# Altium footprint library Button_Switch_SMD.PcbLib: 148 footprints (part 4 of 10)
Each footprint in its own frame and in the unit in brackets; x right, y up, seen from the top. Pads: shape width x height; smd on the part's side, far side on the other; paste and mask are expansions set on the pad; w line width, h text height; cw(c..) or ccw(c..) is an arc to the next point about the centre after c.
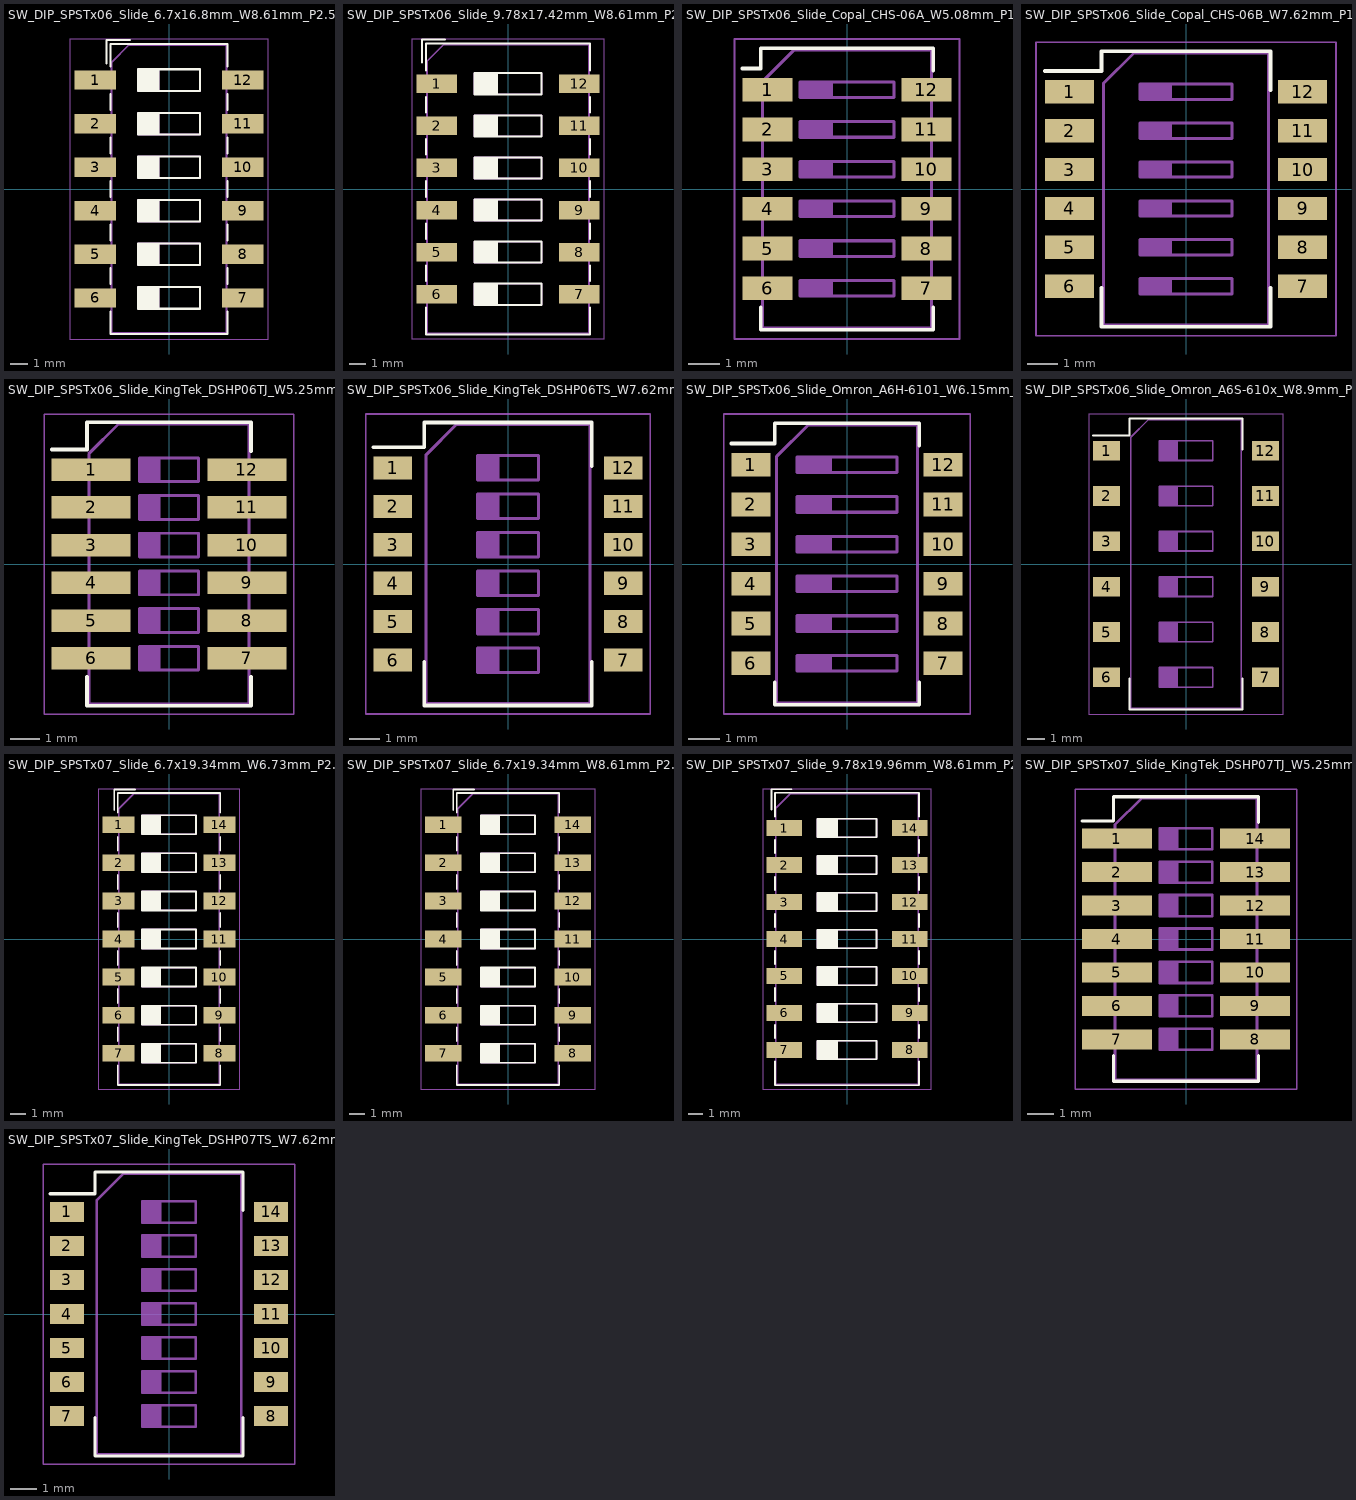
[diagram p3: the footprints below, top view; thin cyan lines are the x and y axes]

## SW_DIP_SPSTx06_Slide_6.7x16.8mm_W8.61mm_P2.54mm_LowProfile [mm]
pads (12):
  rect 2.44x1.12 smd: 1(-4.305,6.35) 2(-4.305,3.81) 3(-4.305,1.27) 4(-4.305,-1.27) 5(-4.305,-3.81) 6(-4.305,-6.35) 7(4.305,-6.35) 8(4.305,-3.81) 9(4.305,-1.27) 10(4.305,1.27) 11(4.305,3.81) 12(4.305,6.35)
F.SilkS:
  lines w0.12: -3.65,7.317 -3.65,8.7 -2.267,8.7 ; -3.41,-7.15 -3.41,-8.461 3.41,-8.461 3.41,-7.15 ; -3.41,-5.55 -3.41,-4.61 ; -3.41,-3.01 -3.41,-2.07 ; -3.41,-0.47 -3.41,0.47 ; -3.41,2.07 -3.41,3.01 ; -3.41,4.61 -3.41,5.55 ; -3.41,7.15 -3.41,8.46 3.41,8.46 3.41,7.15 ; -1.81,-6.915 -0.603,-6.915 ; -1.81,-6.795 -0.603,-6.795 ; -1.81,-6.675 -0.603,-6.675 ; -1.81,-6.555 -0.603,-6.555 ; -1.81,-6.435 -0.603,-6.435 ; -1.81,-6.315 -0.603,-6.315 ; -1.81,-6.195 -0.603,-6.195 ; -1.81,-6.075 -0.603,-6.075 ; -1.81,-5.955 -0.603,-5.955 ; -1.81,-5.835 -0.603,-5.835 ; -1.81,-4.375 -0.603,-4.375 ; -1.81,-4.255 -0.603,-4.255 ; -1.81,-4.135 -0.603,-4.135 ; -1.81,-4.015 -0.603,-4.015 ; -1.81,-3.895 -0.603,-3.895 ; -1.81,-3.775 -0.603,-3.775 ; -1.81,-3.655 -0.603,-3.655 ; -1.81,-3.535 -0.603,-3.535 ; -1.81,-3.415 -0.603,-3.415 ; -1.81,-3.295 -0.603,-3.295 ; -1.81,-1.835 -0.603,-1.835 ; -1.81,-1.715 -0.603,-1.715 ; -1.81,-1.595 -0.603,-1.595 ; -1.81,-1.475 -0.603,-1.475 ; -1.81,-1.355 -0.603,-1.355 ; -1.81,-1.235 -0.603,-1.235 ; -1.81,-1.115 -0.603,-1.115 ; -1.81,-0.995 -0.603,-0.995 ; -1.81,-0.875 -0.603,-0.875 ; -1.81,-0.755 -0.603,-0.755 ; -1.81,0.705 -0.603,0.705 ; -1.81,0.825 -0.603,0.825 ; -1.81,0.945 -0.603,0.945 ; -1.81,1.065 -0.603,1.065 ; -1.81,1.185 -0.603,1.185 ; -1.81,1.305 -0.603,1.305 ; -1.81,1.425 -0.603,1.425 ; -1.81,1.545 -0.603,1.545 ; -1.81,1.665 -0.603,1.665 ; -1.81,1.785 -0.603,1.785 ; -1.81,3.245 -0.603,3.245 ; -1.81,3.365 -0.603,3.365 ; -1.81,3.485 -0.603,3.485 ; -1.81,3.605 -0.603,3.605 ; -1.81,3.725 -0.603,3.725 ; -1.81,3.845 -0.603,3.845 ; -1.81,3.965 -0.603,3.965 ; -1.81,4.085 -0.603,4.085 ; -1.81,4.205 -0.603,4.205 ; -1.81,4.325 -0.603,4.325 ; -1.81,5.785 -0.603,5.785 ; -1.81,5.905 -0.603,5.905 ; -1.81,6.025 -0.603,6.025 ; -1.81,6.145 -0.603,6.145 ; -1.81,6.265 -0.603,6.265 ; -1.81,6.385 -0.603,6.385 ; -1.81,6.505 -0.603,6.505 ; -1.81,6.625 -0.603,6.625 ; -1.81,6.745 -0.603,6.745 ; -1.81,6.865 -0.603,6.865 ; -0.603,-6.985 -0.603,-5.715 ; -0.603,-4.445 -0.603,-3.175 ; -0.603,-1.905 -0.603,-0.635 ; -0.603,0.635 -0.603,1.905 ; -0.603,3.175 -0.603,4.445 ; -0.603,5.715 -0.603,6.985 ; 3.41,-5.55 3.41,-4.61 ; 3.41,-3.01 3.41,-2.07 ; 3.41,-0.47 3.41,0.47 ; 3.41,2.07 3.41,3.01 ; 3.41,4.61 3.41,5.55 ; -1.81,-6.985 1.81,-6.985 1.81,-5.715 -1.81,-5.715 -1.81,-6.985 ; -1.81,-4.445 1.81,-4.445 1.81,-3.175 -1.81,-3.175 -1.81,-4.445 ; -1.81,-1.905 -1.81,-0.635 1.81,-0.635 1.81,-1.905 -1.81,-1.905 ; -1.81,0.635 1.81,0.635 1.81,1.905 -1.81,1.905 -1.81,0.635 ; -1.81,3.175 -1.81,4.445 1.81,4.445 1.81,3.175 -1.81,3.175 ; -1.81,5.715 1.81,5.715 1.81,6.985 -1.81,6.985 -1.81,5.715
F.CrtYd:
  lines w0.05: -5.8,-8.75 -5.8,8.75 5.8,8.75 5.8,-8.75 -5.8,-8.75
F.Fab:
  lines w0.1: -1.81,-6.915 -0.603,-6.915 ; -1.81,-6.815 -0.603,-6.815 ; -1.81,-6.715 -0.603,-6.715 ; -1.81,-6.615 -0.603,-6.615 ; -1.81,-6.515 -0.603,-6.515 ; -1.81,-6.415 -0.603,-6.415 ; -1.81,-6.315 -0.603,-6.315 ; -1.81,-6.215 -0.603,-6.215 ; -1.81,-6.115 -0.603,-6.115 ; -1.81,-6.015 -0.603,-6.015 ; -1.81,-5.915 -0.603,-5.915 ; -1.81,-5.815 -0.603,-5.815 ; -1.81,-4.375 -0.603,-4.375 ; -1.81,-4.275 -0.603,-4.275 ; -1.81,-4.175 -0.603,-4.175 ; -1.81,-4.075 -0.603,-4.075 ; -1.81,-3.975 -0.603,-3.975 ; -1.81,-3.875 -0.603,-3.875 ; -1.81,-3.775 -0.603,-3.775 ; -1.81,-3.675 -0.603,-3.675 ; -1.81,-3.575 -0.603,-3.575 ; -1.81,-3.475 -0.603,-3.475 ; -1.81,-3.375 -0.603,-3.375 ; -1.81,-3.275 -0.603,-3.275 ; -1.81,-1.835 -0.603,-1.835 ; -1.81,-1.735 -0.603,-1.735 ; -1.81,-1.635 -0.603,-1.635 ; -1.81,-1.535 -0.603,-1.535 ; -1.81,-1.435 -0.603,-1.435 ; -1.81,-1.335 -0.603,-1.335 ; -1.81,-1.235 -0.603,-1.235 ; -1.81,-1.135 -0.603,-1.135 ; -1.81,-1.035 -0.603,-1.035 ; -1.81,-0.935 -0.603,-0.935 ; -1.81,-0.835 -0.603,-0.835 ; -1.81,-0.735 -0.603,-0.735 ; -1.81,0.705 -0.603,0.705 ; -1.81,0.805 -0.603,0.805 ; -1.81,0.905 -0.603,0.905 ; -1.81,1.005 -0.603,1.005 ; -1.81,1.105 -0.603,1.105 ; -1.81,1.205 -0.603,1.205 ; -1.81,1.305 -0.603,1.305 ; -1.81,1.405 -0.603,1.405 ; -1.81,1.505 -0.603,1.505 ; -1.81,1.605 -0.603,1.605 ; -1.81,1.705 -0.603,1.705 ; -1.81,1.805 -0.603,1.805 ; -1.81,3.245 -0.603,3.245 ; -1.81,3.345 -0.603,3.345 ; -1.81,3.445 -0.603,3.445 ; -1.81,3.545 -0.603,3.545 ; -1.81,3.645 -0.603,3.645 ; -1.81,3.745 -0.603,3.745 ; -1.81,3.845 -0.603,3.845 ; -1.81,3.945 -0.603,3.945 ; -1.81,4.045 -0.603,4.045 ; -1.81,4.145 -0.603,4.145 ; -1.81,4.245 -0.603,4.245 ; -1.81,4.345 -0.603,4.345 ; -1.81,5.785 -0.603,5.785 ; -1.81,5.885 -0.603,5.885 ; -1.81,5.985 -0.603,5.985 ; -1.81,6.085 -0.603,6.085 ; -1.81,6.185 -0.603,6.185 ; -1.81,6.285 -0.603,6.285 ; -1.81,6.385 -0.603,6.385 ; -1.81,6.485 -0.603,6.485 ; -1.81,6.585 -0.603,6.585 ; -1.81,6.685 -0.603,6.685 ; -1.81,6.785 -0.603,6.785 ; -1.81,6.885 -0.603,6.885 ; -0.603,-6.985 -0.603,-5.715 ; -0.603,-4.445 -0.603,-3.175 ; -0.603,-1.905 -0.603,-0.635 ; -0.603,0.635 -0.603,1.905 ; -0.603,3.175 -0.603,4.445 ; -0.603,5.715 -0.603,6.985 ; -3.35,-8.4 3.35,-8.4 3.35,8.4 -2.35,8.4 -3.35,7.4 -3.35,-8.4 ; -1.81,-6.985 -1.81,-5.715 1.81,-5.715 1.81,-6.985 -1.81,-6.985 ; -1.81,-4.445 -1.81,-3.175 1.81,-3.175 1.81,-4.445 -1.81,-4.445 ; -1.81,-1.905 1.81,-1.905 1.81,-0.635 -1.81,-0.635 -1.81,-1.905 ; -1.81,0.635 1.81,0.635 1.81,1.905 -1.81,1.905 -1.81,0.635 ; -1.81,3.175 -1.81,4.445 1.81,4.445 1.81,3.175 -1.81,3.175 ; -1.81,5.715 -1.81,6.985 1.81,6.985 1.81,5.715 -1.81,5.715
  text "'.Designator'" at 3.252,-3.237 h0.8
  text "on" at -0.237,7.306 h0.8

## SW_DIP_SPSTx06_Slide_9.78x17.42mm_W8.61mm_P2.54mm [mm]
pads (12):
  rect 2.44x1.12 smd: 1(-4.305,6.35) 2(-4.305,3.81) 3(-4.305,1.27) 4(-4.305,-1.27) 5(-4.305,-3.81) 6(-4.305,-6.35) 7(4.305,-6.35) 8(4.305,-3.81) 9(4.305,-1.27) 10(4.305,1.27) 11(4.305,3.81) 12(4.305,6.35)
F.SilkS:
  lines w0.12: -5.19,7.627 -5.19,9.01 -3.806,9.01 ; -4.95,-7.15 -4.95,-8.77 4.95,-8.77 4.95,-7.15 ; -4.95,-5.55 -4.95,-4.61 ; -4.95,-3.01 -4.95,-2.07 ; -4.95,-0.47 -4.95,0.47 ; -4.95,2.07 -4.95,3.01 ; -4.95,4.61 -4.95,5.55 ; -4.95,7.15 -4.95,8.77 4.95,8.77 4.95,7.15 ; -2.03,-6.915 -0.677,-6.915 ; -2.03,-6.795 -0.677,-6.795 ; -2.03,-6.675 -0.677,-6.675 ; -2.03,-6.555 -0.677,-6.555 ; -2.03,-6.435 -0.677,-6.435 ; -2.03,-6.315 -0.677,-6.315 ; -2.03,-6.195 -0.677,-6.195 ; -2.03,-6.075 -0.677,-6.075 ; -2.03,-5.955 -0.677,-5.955 ; -2.03,-5.835 -0.677,-5.835 ; -2.03,-4.375 -0.677,-4.375 ; -2.03,-4.255 -0.677,-4.255 ; -2.03,-4.135 -0.677,-4.135 ; -2.03,-4.015 -0.677,-4.015 ; -2.03,-3.895 -0.677,-3.895 ; -2.03,-3.775 -0.677,-3.775 ; -2.03,-3.655 -0.677,-3.655 ; -2.03,-3.535 -0.677,-3.535 ; -2.03,-3.415 -0.677,-3.415 ; -2.03,-3.295 -0.677,-3.295 ; -2.03,-1.835 -0.677,-1.835 ; -2.03,-1.715 -0.677,-1.715 ; -2.03,-1.595 -0.677,-1.595 ; -2.03,-1.475 -0.677,-1.475 ; -2.03,-1.355 -0.677,-1.355 ; -2.03,-1.235 -0.677,-1.235 ; -2.03,-1.115 -0.677,-1.115 ; -2.03,-0.995 -0.677,-0.995 ; -2.03,-0.875 -0.677,-0.875 ; -2.03,-0.755 -0.677,-0.755 ; -2.03,0.705 -0.677,0.705 ; -2.03,0.825 -0.677,0.825 ; -2.03,0.945 -0.677,0.945 ; -2.03,1.065 -0.677,1.065 ; -2.03,1.185 -0.677,1.185 ; -2.03,1.305 -0.677,1.305 ; -2.03,1.425 -0.677,1.425 ; -2.03,1.545 -0.677,1.545 ; -2.03,1.665 -0.677,1.665 ; -2.03,1.785 -0.677,1.785 ; -2.03,3.245 -0.677,3.245 ; -2.03,3.365 -0.677,3.365 ; -2.03,3.485 -0.677,3.485 ; -2.03,3.605 -0.677,3.605 ; -2.03,3.725 -0.677,3.725 ; -2.03,3.845 -0.677,3.845 ; -2.03,3.965 -0.677,3.965 ; -2.03,4.085 -0.677,4.085 ; -2.03,4.205 -0.677,4.205 ; -2.03,4.325 -0.677,4.325 ; -2.03,5.785 -0.677,5.785 ; -2.03,5.905 -0.677,5.905 ; -2.03,6.025 -0.677,6.025 ; -2.03,6.145 -0.677,6.145 ; -2.03,6.265 -0.677,6.265 ; -2.03,6.385 -0.677,6.385 ; -2.03,6.505 -0.677,6.505 ; -2.03,6.625 -0.677,6.625 ; -2.03,6.745 -0.677,6.745 ; -2.03,6.865 -0.677,6.865 ; -0.677,-6.985 -0.677,-5.715 ; -0.677,-4.445 -0.677,-3.175 ; -0.677,-1.905 -0.677,-0.635 ; -0.677,0.635 -0.677,1.905 ; -0.677,3.175 -0.677,4.445 ; -0.677,5.715 -0.677,6.985 ; 4.95,-5.55 4.95,-4.61 ; 4.95,-3.01 4.95,-2.07 ; 4.95,-0.47 4.95,0.47 ; 4.95,2.07 4.95,3.01 ; 4.95,4.61 4.95,5.55 ; -2.03,-6.985 2.03,-6.985 2.03,-5.715 -2.03,-5.715 -2.03,-6.985 ; -2.03,-4.445 -2.03,-3.175 2.03,-3.175 2.03,-4.445 -2.03,-4.445 ; -2.03,-1.905 2.03,-1.905 2.03,-0.635 -2.03,-0.635 -2.03,-1.905 ; -2.03,0.635 2.03,0.635 2.03,1.905 -2.03,1.905 -2.03,0.635 ; -2.03,3.175 -2.03,4.445 2.03,4.445 2.03,3.175 -2.03,3.175 ; -2.03,5.715 -2.03,6.985 2.03,6.985 2.03,5.715 -2.03,5.715
F.CrtYd:
  lines w0.05: -5.8,-9.05 -5.8,9.05 5.8,9.05 5.8,-9.05 -5.8,-9.05
F.Fab:
  lines w0.1: -2.03,-6.915 -0.677,-6.915 ; -2.03,-6.815 -0.677,-6.815 ; -2.03,-6.715 -0.677,-6.715 ; -2.03,-6.615 -0.677,-6.615 ; -2.03,-6.515 -0.677,-6.515 ; -2.03,-6.415 -0.677,-6.415 ; -2.03,-6.315 -0.677,-6.315 ; -2.03,-6.215 -0.677,-6.215 ; -2.03,-6.115 -0.677,-6.115 ; -2.03,-6.015 -0.677,-6.015 ; -2.03,-5.915 -0.677,-5.915 ; -2.03,-5.815 -0.677,-5.815 ; -2.03,-4.375 -0.677,-4.375 ; -2.03,-4.275 -0.677,-4.275 ; -2.03,-4.175 -0.677,-4.175 ; -2.03,-4.075 -0.677,-4.075 ; -2.03,-3.975 -0.677,-3.975 ; -2.03,-3.875 -0.677,-3.875 ; -2.03,-3.775 -0.677,-3.775 ; -2.03,-3.675 -0.677,-3.675 ; -2.03,-3.575 -0.677,-3.575 ; -2.03,-3.475 -0.677,-3.475 ; -2.03,-3.375 -0.677,-3.375 ; -2.03,-3.275 -0.677,-3.275 ; -2.03,-1.835 -0.677,-1.835 ; -2.03,-1.735 -0.677,-1.735 ; -2.03,-1.635 -0.677,-1.635 ; -2.03,-1.535 -0.677,-1.535 ; -2.03,-1.435 -0.677,-1.435 ; -2.03,-1.335 -0.677,-1.335 ; -2.03,-1.235 -0.677,-1.235 ; -2.03,-1.135 -0.677,-1.135 ; -2.03,-1.035 -0.677,-1.035 ; -2.03,-0.935 -0.677,-0.935 ; -2.03,-0.835 -0.677,-0.835 ; -2.03,-0.735 -0.677,-0.735 ; -2.03,0.705 -0.677,0.705 ; -2.03,0.805 -0.677,0.805 ; -2.03,0.905 -0.677,0.905 ; -2.03,1.005 -0.677,1.005 ; -2.03,1.105 -0.677,1.105 ; -2.03,1.205 -0.677,1.205 ; -2.03,1.305 -0.677,1.305 ; -2.03,1.405 -0.677,1.405 ; -2.03,1.505 -0.677,1.505 ; -2.03,1.605 -0.677,1.605 ; -2.03,1.705 -0.677,1.705 ; -2.03,1.805 -0.677,1.805 ; -2.03,3.245 -0.677,3.245 ; -2.03,3.345 -0.677,3.345 ; -2.03,3.445 -0.677,3.445 ; -2.03,3.545 -0.677,3.545 ; -2.03,3.645 -0.677,3.645 ; -2.03,3.745 -0.677,3.745 ; -2.03,3.845 -0.677,3.845 ; -2.03,3.945 -0.677,3.945 ; -2.03,4.045 -0.677,4.045 ; -2.03,4.145 -0.677,4.145 ; -2.03,4.245 -0.677,4.245 ; -2.03,4.345 -0.677,4.345 ; -2.03,5.785 -0.677,5.785 ; -2.03,5.885 -0.677,5.885 ; -2.03,5.985 -0.677,5.985 ; -2.03,6.085 -0.677,6.085 ; -2.03,6.185 -0.677,6.185 ; -2.03,6.285 -0.677,6.285 ; -2.03,6.385 -0.677,6.385 ; -2.03,6.485 -0.677,6.485 ; -2.03,6.585 -0.677,6.585 ; -2.03,6.685 -0.677,6.685 ; -2.03,6.785 -0.677,6.785 ; -2.03,6.885 -0.677,6.885 ; -0.677,-6.985 -0.677,-5.715 ; -0.677,-4.445 -0.677,-3.175 ; -0.677,-1.905 -0.677,-0.635 ; -0.677,0.635 -0.677,1.905 ; -0.677,3.175 -0.677,4.445 ; -0.677,5.715 -0.677,6.985 ; -4.89,-8.71 -4.89,7.71 -3.89,8.71 4.89,8.71 4.89,-8.71 -4.89,-8.71 ; -2.03,-6.985 2.03,-6.985 2.03,-5.715 -2.03,-5.715 -2.03,-6.985 ; -2.03,-4.445 2.03,-4.445 2.03,-3.175 -2.03,-3.175 -2.03,-4.445 ; -2.03,-1.905 -2.03,-0.635 2.03,-0.635 2.03,-1.905 -2.03,-1.905 ; -2.03,0.635 -2.03,1.905 2.03,1.905 2.03,0.635 -2.03,0.635 ; -2.03,3.175 -2.03,4.445 2.03,4.445 2.03,3.175 -2.03,3.175 ; -2.03,5.715 2.03,5.715 2.03,6.985 -2.03,6.985 -2.03,5.715
  text "'.Designator'" at 4.132,-3.237 h0.8
  text "on" at 0.643,7.461 h0.8

## SW_DIP_SPSTx06_Slide_Copal_CHS-06A_W5.08mm_P1.27mm_JPin [mm]
pads (12):
  rect 1.6x0.76 smd: 1(-2.54,3.175) 2(-2.54,1.905) 3(-2.54,0.635) 4(-2.54,-0.635) 5(-2.54,-1.905) 6(-2.54,-3.175) 7(2.54,-3.175) 8(2.54,-1.905) 9(2.54,-0.635) 10(2.54,0.635) 11(2.54,1.905) 12(2.54,3.175)
F.SilkS:
  lines w0.12: -3.34,3.855 -2.761,3.855 -2.761,4.505 2.76,4.505 2.76,3.795 ; -2.761,-3.795 -2.761,-4.505 2.76,-4.505 2.76,-3.795
F.CrtYd:
  lines w0.05: -3.6,-4.8 -3.6,4.8 3.6,4.8 3.6,-4.8 -3.6,-4.8
F.Fab:
  lines w0.1: -1.5,-3.325 -0.5,-3.325 ; -1.5,-3.225 -0.5,-3.225 ; -1.5,-3.125 -0.5,-3.125 ; -1.5,-3.025 -0.5,-3.025 ; -1.5,-2.055 -0.5,-2.055 ; -1.5,-1.955 -0.5,-1.955 ; -1.5,-1.855 -0.5,-1.855 ; -1.5,-1.755 -0.5,-1.755 ; -1.5,-0.785 -0.5,-0.785 ; -1.5,-0.685 -0.5,-0.685 ; -1.5,-0.585 -0.5,-0.585 ; -1.5,-0.485 -0.5,-0.485 ; -1.5,0.485 -0.5,0.485 ; -1.5,0.585 -0.5,0.585 ; -1.5,0.685 -0.5,0.685 ; -1.5,0.785 -0.5,0.785 ; -1.5,1.755 -0.5,1.755 ; -1.5,1.855 -0.5,1.855 ; -1.5,1.955 -0.5,1.955 ; -1.5,2.055 -0.5,2.055 ; -1.5,3.025 -0.5,3.025 ; -1.5,3.125 -0.5,3.125 ; -1.5,3.225 -0.5,3.225 ; -1.5,3.325 -0.5,3.325 ; -0.5,-2.925 -0.5,-3.425 -1.5,-3.425 ; -0.5,-1.655 -0.5,-2.155 -1.5,-2.155 ; -0.5,-0.885 -0.5,-0.385 ; -0.5,0.385 -0.5,0.885 ; -0.5,1.655 -0.5,2.155 ; -0.5,2.925 -0.5,3.425 ; -1.5,-3.425 -1.5,-2.925 1.5,-2.925 1.5,-3.425 -1.5,-3.425 ; -1.5,-2.155 1.5,-2.155 1.5,-1.655 -1.5,-1.655 -1.5,-2.155 ; -2.7,-4.445 2.7,-4.445 2.7,4.445 -1.7,4.445 -2.7,3.445 -2.7,-4.445 ; -1.5,-0.885 1.5,-0.885 1.5,-0.385 -1.5,-0.385 -1.5,-0.885 ; -1.5,0.385 -1.5,0.885 1.5,0.885 1.5,0.385 -1.5,0.385 ; -1.5,1.655 -1.5,2.155 1.5,2.155 1.5,1.655 -1.5,1.655 ; -1.5,2.925 -1.5,3.425 1.5,3.425 1.5,2.925 -1.5,2.925
  text "'.Designator'" at 2.772,-3.237 h0.8
  text "on" at 0.165,3.548 h0.8

## SW_DIP_SPSTx06_Slide_Copal_CHS-06B_W7.62mm_P1.27mm [mm]
pads (12):
  rect 1.6x0.76 smd: 1(-3.81,3.175) 2(-3.81,1.905) 3(-3.81,0.635) 4(-3.81,-0.635) 5(-3.81,-1.905) 6(-3.81,-3.175) 7(3.81,-3.175) 8(3.81,-1.905) 9(3.81,-0.635) 10(3.81,0.635) 11(3.81,1.905) 12(3.81,3.175)
F.SilkS:
  lines w0.12: -4.61,3.855 -2.76,3.855 -2.76,4.505 2.76,4.505 2.76,3.236 ; -2.76,-3.235 -2.76,-4.505 2.76,-4.505 2.76,-3.235
F.CrtYd:
  lines w0.05: -4.9,-4.8 4.9,-4.8 4.9,4.8 -4.9,4.8 -4.9,-4.8
F.Fab:
  lines w0.1: -1.5,-3.325 -0.5,-3.325 ; -1.5,-3.225 -0.5,-3.225 ; -1.5,-3.125 -0.5,-3.125 ; -1.5,-3.025 -0.5,-3.025 ; -1.5,-2.055 -0.5,-2.055 ; -1.5,-1.955 -0.5,-1.955 ; -1.5,-1.855 -0.5,-1.855 ; -1.5,-1.755 -0.5,-1.755 ; -1.5,-0.785 -0.5,-0.785 ; -1.5,-0.685 -0.5,-0.685 ; -1.5,-0.585 -0.5,-0.585 ; -1.5,-0.485 -0.5,-0.485 ; -1.5,0.485 -0.5,0.485 ; -1.5,0.585 -0.5,0.585 ; -1.5,0.685 -0.5,0.685 ; -1.5,0.785 -0.5,0.785 ; -1.5,1.755 -0.5,1.755 ; -1.5,1.855 -0.5,1.855 ; -1.5,1.955 -0.5,1.955 ; -1.5,2.055 -0.5,2.055 ; -1.5,3.025 -0.5,3.025 ; -1.5,3.125 -0.5,3.125 ; -1.5,3.225 -0.5,3.225 ; -1.5,3.325 -0.5,3.325 ; -0.5,-2.925 -0.5,-3.425 -1.5,-3.425 ; -0.5,-1.655 -0.5,-2.155 -1.5,-2.155 ; -0.5,-0.885 -0.5,-0.385 ; -0.5,0.385 -0.5,0.885 ; -0.5,1.655 -0.5,2.155 ; -0.5,2.925 -0.5,3.425 ; -1.5,-3.425 1.5,-3.425 1.5,-2.925 -1.5,-2.925 -1.5,-3.425 ; -1.5,-2.155 1.5,-2.155 1.5,-1.655 -1.5,-1.655 -1.5,-2.155 ; -2.7,-4.445 2.7,-4.445 2.7,4.445 -1.7,4.445 -2.7,3.445 -2.7,-4.445 ; -1.5,-0.885 -1.5,-0.385 1.5,-0.385 1.5,-0.885 -1.5,-0.885 ; -1.5,0.385 1.5,0.385 1.5,0.885 -1.5,0.885 -1.5,0.385 ; -1.5,1.655 -1.5,2.155 1.5,2.155 1.5,1.655 -1.5,1.655 ; -1.5,2.925 1.5,2.925 1.5,3.425 -1.5,3.425 -1.5,2.925
  text "on" at -0.47,3.548 h0.8
  text "'.Designator'" at 2.772,-3.237 h0.8

## SW_DIP_SPSTx06_Slide_KingTek_DSHP06TJ_W5.25mm_P1.27mm_JPin [mm]
pads (12):
  rect 2.65x0.76 smd: 1(-2.625,3.175) 2(-2.625,1.905) 3(-2.625,0.635) 4(-2.625,-0.635) 5(-2.625,-1.905) 6(-2.625,-3.175) 7(2.625,-3.175) 8(2.625,-1.905) 9(2.625,-0.635) 10(2.625,0.635) 11(2.625,1.905) 12(2.625,3.175)
F.SilkS:
  lines w0.12: -3.951,3.855 -2.761,3.855 -2.761,4.77 2.76,4.77 2.76,3.795 ; -2.761,-3.795 -2.761,-4.77 2.76,-4.77 2.76,-3.795
F.CrtYd:
  lines w0.05: -4.2,-5.05 4.2,-5.05 4.2,5.05 -4.2,5.05 -4.2,-5.05
F.Fab:
  lines w0.1: -1,-3.475 -0.333,-3.475 ; -1,-3.375 -0.333,-3.375 ; -1,-3.275 -0.333,-3.275 ; -1,-3.175 -0.333,-3.175 ; -1,-3.075 -0.333,-3.075 ; -1,-2.975 -0.333,-2.975 ; -1,-2.875 -0.333,-2.875 ; -1,-2.205 -0.333,-2.205 ; -1,-2.105 -0.333,-2.105 ; -1,-2.005 -0.333,-2.005 ; -1,-1.905 -0.333,-1.905 ; -1,-1.805 -0.333,-1.805 ; -1,-1.705 -0.333,-1.705 ; -1,-1.605 -0.333,-1.605 ; -1,-0.935 -0.333,-0.935 ; -1,-0.835 -0.333,-0.835 ; -1,-0.735 -0.333,-0.735 ; -1,-0.635 -0.333,-0.635 ; -1,-0.535 -0.333,-0.535 ; -1,-0.435 -0.333,-0.435 ; -1,-0.335 -0.333,-0.335 ; -1,0.335 -0.333,0.335 ; -1,0.435 -0.333,0.435 ; -1,0.535 -0.333,0.535 ; -1,0.635 -0.333,0.635 ; -1,0.735 -0.333,0.735 ; -1,0.835 -0.333,0.835 ; -1,0.935 -0.333,0.935 ; -1,1.605 -0.333,1.605 ; -1,1.705 -0.333,1.705 ; -1,1.805 -0.333,1.805 ; -1,1.905 -0.333,1.905 ; -1,2.005 -0.333,2.005 ; -1,2.105 -0.333,2.105 ; -1,2.205 -0.333,2.205 ; -1,2.875 -0.333,2.875 ; -1,2.975 -0.333,2.975 ; -1,3.075 -0.333,3.075 ; -1,3.175 -0.333,3.175 ; -1,3.275 -0.333,3.275 ; -1,3.375 -0.333,3.375 ; -1,3.475 -0.333,3.475 ; -0.333,-2.775 -0.333,-3.575 -1,-3.575 ; -0.333,-1.505 -0.333,-2.305 -1,-2.305 ; -0.333,-1.035 -0.333,-0.235 ; -0.333,0.235 -0.333,1.035 ; -0.333,1.505 -0.333,2.305 ; -0.333,2.775 -0.333,3.575 ; -1,-3.575 1,-3.575 1,-2.775 -1,-2.775 -1,-3.575 ; -1,-2.305 1,-2.305 1,-1.505 -1,-1.505 -1,-2.305 ; -2.7,-4.71 2.7,-4.71 2.7,4.71 -1.7,4.71 -2.7,3.71 -2.7,-4.71 ; -1,-1.035 1,-1.035 1,-0.235 -1,-0.235 -1,-1.035 ; -1,0.235 1,0.235 1,1.035 -1,1.035 -1,0.235 ; -1,1.505 -1,2.305 1,2.305 1,1.505 -1,1.505 ; -1,2.775 1,2.775 1,3.575 -1,3.575 -1,2.775
  text "on" at -0.127,3.756 h0.8
  text "'.Designator'" at 2.522,-3.237 h0.8

## SW_DIP_SPSTx06_Slide_KingTek_DSHP06TS_W7.62mm_P1.27mm [mm]
pads (12):
  rect 1.27x0.76 smd: 1(-3.81,3.175) 2(-3.81,1.905) 3(-3.81,0.635) 4(-3.81,-0.635) 5(-3.81,-1.905) 6(-3.81,-3.175) 7(3.81,-3.175) 8(3.81,-1.905) 9(3.81,-0.635) 10(3.81,0.635) 11(3.81,1.905) 12(3.81,3.175)
F.SilkS:
  lines w0.12: -4.446,3.855 -2.76,3.855 -2.76,4.671 2.76,4.671 2.76,3.236 ; -2.76,-3.235 -2.76,-4.67 2.76,-4.67 2.76,-3.235
F.CrtYd:
  lines w0.05: -4.7,-4.95 -4.7,4.95 4.7,4.95 4.7,-4.95 -4.7,-4.95
F.Fab:
  lines w0.1: -1,-3.475 -0.333,-3.475 ; -1,-3.375 -0.333,-3.375 ; -1,-3.275 -0.333,-3.275 ; -1,-3.175 -0.333,-3.175 ; -1,-3.075 -0.333,-3.075 ; -1,-2.975 -0.333,-2.975 ; -1,-2.875 -0.333,-2.875 ; -1,-2.205 -0.333,-2.205 ; -1,-2.105 -0.333,-2.105 ; -1,-2.005 -0.333,-2.005 ; -1,-1.905 -0.333,-1.905 ; -1,-1.805 -0.333,-1.805 ; -1,-1.705 -0.333,-1.705 ; -1,-1.605 -0.333,-1.605 ; -1,-0.935 -0.333,-0.935 ; -1,-0.835 -0.333,-0.835 ; -1,-0.735 -0.333,-0.735 ; -1,-0.635 -0.333,-0.635 ; -1,-0.535 -0.333,-0.535 ; -1,-0.435 -0.333,-0.435 ; -1,-0.335 -0.333,-0.335 ; -1,0.335 -0.333,0.335 ; -1,0.435 -0.333,0.435 ; -1,0.535 -0.333,0.535 ; -1,0.635 -0.333,0.635 ; -1,0.735 -0.333,0.735 ; -1,0.835 -0.333,0.835 ; -1,0.935 -0.333,0.935 ; -1,1.605 -0.333,1.605 ; -1,1.705 -0.333,1.705 ; -1,1.805 -0.333,1.805 ; -1,1.905 -0.333,1.905 ; -1,2.005 -0.333,2.005 ; -1,2.105 -0.333,2.105 ; -1,2.205 -0.333,2.205 ; -1,2.875 -0.333,2.875 ; -1,2.975 -0.333,2.975 ; -1,3.075 -0.333,3.075 ; -1,3.175 -0.333,3.175 ; -1,3.275 -0.333,3.275 ; -1,3.375 -0.333,3.375 ; -1,3.475 -0.333,3.475 ; -0.333,-2.775 -0.333,-3.575 -1,-3.575 ; -0.333,-1.505 -0.333,-2.305 -1,-2.305 ; -0.333,-1.035 -0.333,-0.235 ; -0.333,0.235 -0.333,1.035 ; -0.333,1.505 -0.333,2.305 ; -0.333,2.775 -0.333,3.575 ; -1,-3.575 -1,-2.775 1,-2.775 1,-3.575 -1,-3.575 ; -1,-2.305 1,-2.305 1,-1.505 -1,-1.505 -1,-2.305 ; -2.7,-4.61 -2.7,3.61 -1.7,4.61 2.7,4.61 2.7,-4.61 -2.7,-4.61 ; -1,-1.035 1,-1.035 1,-0.235 -1,-0.235 -1,-1.035 ; -1,0.235 -1,1.035 1,1.035 1,0.235 -1,0.235 ; -1,1.505 1,1.505 1,2.305 -1,2.305 -1,1.505 ; -1,2.775 1,2.775 1,3.575 -1,3.575 -1,2.775
  text "'.Designator'" at 2.522,-3.237 h0.8
  text "on" at -0.72,3.706 h0.8

## SW_DIP_SPSTx06_Slide_Omron_A6H-6101_W6.15mm_P1.27mm [mm]
pads (12):
  rect 1.25x0.76 smd: 1(-3.075,3.175) 2(-3.075,1.905) 3(-3.075,0.635) 4(-3.075,-0.635) 5(-3.075,-1.905) 6(-3.075,-3.175) 7(3.075,-3.175) 8(3.075,-1.905) 9(3.075,-0.635) 10(3.075,0.635) 11(3.075,1.905) 12(3.075,3.175)
F.SilkS:
  lines w0.12: -3.7,3.855 -2.309,3.855 -2.309,4.505 2.31,4.505 2.31,3.795 ; -2.309,-3.795 -2.309,-4.505 2.31,-4.505 2.31,-3.795
F.CrtYd:
  lines w0.05: -3.95,-4.8 3.95,-4.8 3.95,4.8 -3.95,4.8 -3.95,-4.8
F.Fab:
  lines w0.1: -1.6,-3.325 -0.533,-3.325 ; -1.6,-3.225 -0.533,-3.225 ; -1.6,-3.125 -0.533,-3.125 ; -1.6,-3.025 -0.533,-3.025 ; -1.6,-2.055 -0.533,-2.055 ; -1.6,-1.955 -0.533,-1.955 ; -1.6,-1.855 -0.533,-1.855 ; -1.6,-1.755 -0.533,-1.755 ; -1.6,-0.785 -0.533,-0.785 ; -1.6,-0.685 -0.533,-0.685 ; -1.6,-0.585 -0.533,-0.585 ; -1.6,-0.485 -0.533,-0.485 ; -1.6,0.485 -0.533,0.485 ; -1.6,0.585 -0.533,0.585 ; -1.6,0.685 -0.533,0.685 ; -1.6,0.785 -0.533,0.785 ; -1.6,1.755 -0.533,1.755 ; -1.6,1.855 -0.533,1.855 ; -1.6,1.955 -0.533,1.955 ; -1.6,2.055 -0.533,2.055 ; -1.6,3.025 -0.533,3.025 ; -1.6,3.125 -0.533,3.125 ; -1.6,3.225 -0.533,3.225 ; -1.6,3.325 -0.533,3.325 ; -0.533,-2.925 -0.533,-3.425 -1.6,-3.425 ; -0.533,-1.655 -0.533,-2.155 -1.6,-2.155 ; -0.533,-0.885 -0.533,-0.385 ; -0.533,0.385 -0.533,0.885 ; -0.533,1.655 -0.533,2.155 ; -0.533,2.925 -0.533,3.425 ; -1.6,-3.425 1.6,-3.425 1.6,-2.925 -1.6,-2.925 -1.6,-3.425 ; -1.6,-2.155 1.6,-2.155 1.6,-1.655 -1.6,-1.655 -1.6,-2.155 ; -2.25,-4.445 -2.25,3.445 -1.25,4.445 2.25,4.445 2.25,-4.445 -2.25,-4.445 ; -1.6,-0.885 1.6,-0.885 1.6,-0.385 -1.6,-0.385 -1.6,-0.885 ; -1.6,0.385 -1.6,0.885 1.6,0.885 1.6,0.385 -1.6,0.385 ; -1.6,1.655 1.6,1.655 1.6,2.155 -1.6,2.155 -1.6,1.655 ; -1.6,2.925 1.6,2.925 1.6,3.425 -1.6,3.425 -1.6,2.925
  text "'.Designator'" at 2.307,-1.841 h0.46
  text "on" at 0.009,3.715 h0.46

## SW_DIP_SPSTx06_Slide_Omron_A6S-610x_W8.9mm_P2.54mm [mm]
pads (12):
  rect 1.5x1.1 smd: 1(-4.45,6.35) 2(-4.45,3.81) 3(-4.45,1.27) 4(-4.45,-1.27) 5(-4.45,-3.81) 6(-4.45,-6.35) 7(4.45,-6.35) 8(4.45,-3.81) 9(4.45,-1.27) 10(4.45,1.27) 11(4.45,3.81) 12(4.45,6.35)
F.SilkS:
  lines w0.12: -5.2,7.201 -3.16,7.201 -3.16,8.15 3.16,8.15 3.16,6.411 ; -3.16,-6.41 -3.16,-8.15 3.16,-8.15 3.16,-6.41
F.CrtYd:
  lines w0.05: -5.45,-8.4 -5.45,8.4 5.45,8.4 5.45,-8.4 -5.45,-8.4
F.Fab:
  lines w0.1: -1.5,-6.8 -0.5,-6.8 ; -1.5,-6.7 -0.5,-6.7 ; -1.5,-6.6 -0.5,-6.6 ; -1.5,-6.5 -0.5,-6.5 ; -1.5,-6.4 -0.5,-6.4 ; -1.5,-6.3 -0.5,-6.3 ; -1.5,-6.2 -0.5,-6.2 ; -1.5,-6.1 -0.5,-6.1 ; -1.5,-6 -0.5,-6 ; -1.5,-5.9 -0.5,-5.9 ; -1.5,-4.26 -0.5,-4.26 ; -1.5,-4.16 -0.5,-4.16 ; -1.5,-4.06 -0.5,-4.06 ; -1.5,-3.96 -0.5,-3.96 ; -1.5,-3.86 -0.5,-3.86 ; -1.5,-3.76 -0.5,-3.76 ; -1.5,-3.66 -0.5,-3.66 ; -1.5,-3.56 -0.5,-3.56 ; -1.5,-3.46 -0.5,-3.46 ; -1.5,-3.36 -0.5,-3.36 ; -1.5,-1.72 -0.5,-1.72 ; -1.5,-1.62 -0.5,-1.62 ; -1.5,-1.52 -0.5,-1.52 ; -1.5,-1.42 -0.5,-1.42 ; -1.5,-1.32 -0.5,-1.32 ; -1.5,-1.22 -0.5,-1.22 ; -1.5,-1.12 -0.5,-1.12 ; -1.5,-1.02 -0.5,-1.02 ; -1.5,-0.92 -0.5,-0.92 ; -1.5,-0.82 -0.5,-0.82 ; -1.5,0.82 -0.5,0.82 ; -1.5,0.92 -0.5,0.92 ; -1.5,1.02 -0.5,1.02 ; -1.5,1.12 -0.5,1.12 ; -1.5,1.22 -0.5,1.22 ; -1.5,1.32 -0.5,1.32 ; -1.5,1.42 -0.5,1.42 ; -1.5,1.52 -0.5,1.52 ; -1.5,1.62 -0.5,1.62 ; -1.5,1.72 -0.5,1.72 ; -1.5,3.36 -0.5,3.36 ; -1.5,3.46 -0.5,3.46 ; -1.5,3.56 -0.5,3.56 ; -1.5,3.66 -0.5,3.66 ; -1.5,3.76 -0.5,3.76 ; -1.5,3.86 -0.5,3.86 ; -1.5,3.96 -0.5,3.96 ; -1.5,4.06 -0.5,4.06 ; -1.5,4.16 -0.5,4.16 ; -1.5,4.26 -0.5,4.26 ; -1.5,5.9 -0.5,5.9 ; -1.5,6 -0.5,6 ; -1.5,6.1 -0.5,6.1 ; -1.5,6.2 -0.5,6.2 ; -1.5,6.3 -0.5,6.3 ; -1.5,6.4 -0.5,6.4 ; -1.5,6.5 -0.5,6.5 ; -1.5,6.6 -0.5,6.6 ; -1.5,6.7 -0.5,6.7 ; -1.5,6.8 -0.5,6.8 ; -0.5,-5.8 -0.5,-6.9 -1.5,-6.9 ; -0.5,-3.26 -0.5,-4.36 -1.5,-4.36 ; -0.5,-0.72 -0.5,-1.82 -1.5,-1.82 ; -0.5,1.82 -0.5,0.72 -1.5,0.72 ; -0.5,3.26 -0.5,4.36 ; -0.5,6.9 -0.5,5.8 -1.5,5.8 ; -1.5,-6.9 1.5,-6.9 1.5,-5.8 -1.5,-5.8 -1.5,-6.9 ; -1.5,-4.36 1.5,-4.36 1.5,-3.26 -1.5,-3.26 -1.5,-4.36 ; -1.5,-1.82 -1.5,-0.72 1.5,-0.72 1.5,-1.82 -1.5,-1.82 ; -1.5,0.72 -1.5,1.82 1.5,1.82 1.5,0.72 -1.5,0.72 ; -1.5,5.8 -1.5,6.9 1.5,6.9 1.5,5.8 -1.5,5.8 ; -3.1,-8.09 -3.1,7.09 -2.1,8.09 3.1,8.09 3.1,-8.09 -3.1,-8.09 ; -1.5,3.26 -1.5,4.36 1.5,4.36 1.5,3.26 -1.5,3.26
  text "'.Designator'" at 2.972,-3.237 h0.8
  text "on" at -0.59,7.108 h0.8

## SW_DIP_SPSTx07_Slide_6.7x19.34mm_W6.73mm_P2.54mm_LowProfile_JPin [mm]
pads (14):
  rect 2.16x1.12 smd: 1(-3.365,7.62) 2(-3.365,5.08) 3(-3.365,2.54) 4(-3.365,0) 5(-3.365,-2.54) 6(-3.365,-5.08) 7(-3.365,-7.62) 8(3.365,-7.62) 9(3.365,-5.08) 10(3.365,-2.54) 11(3.365,0) 12(3.365,2.54) 13(3.365,5.08) 14(3.365,7.62)
F.SilkS:
  lines w0.12: -3.65,8.587 -3.65,9.97 -2.267,9.97 ; -3.41,-8.42 -3.41,-9.73 3.41,-9.73 3.41,-8.42 ; -3.41,-6.82 -3.41,-5.88 ; -3.41,-4.28 -3.41,-3.34 ; -3.41,-1.74 -3.41,-0.8 ; -3.41,0.8 -3.41,1.74 ; -3.41,3.34 -3.41,4.28 ; -3.41,5.88 -3.41,6.82 ; -3.41,8.42 -3.41,9.73 3.41,9.73 3.41,8.42 ; -1.81,-8.185 -0.603,-8.185 ; -1.81,-8.065 -0.603,-8.065 ; -1.81,-7.945 -0.603,-7.945 ; -1.81,-7.825 -0.603,-7.825 ; -1.81,-7.705 -0.603,-7.705 ; -1.81,-7.585 -0.603,-7.585 ; -1.81,-7.465 -0.603,-7.465 ; -1.81,-7.345 -0.603,-7.345 ; -1.81,-7.225 -0.603,-7.225 ; -1.81,-7.105 -0.603,-7.105 ; -1.81,-5.645 -0.603,-5.645 ; -1.81,-5.525 -0.603,-5.525 ; -1.81,-5.405 -0.603,-5.405 ; -1.81,-5.285 -0.603,-5.285 ; -1.81,-5.165 -0.603,-5.165 ; -1.81,-5.045 -0.603,-5.045 ; -1.81,-4.925 -0.603,-4.925 ; -1.81,-4.805 -0.603,-4.805 ; -1.81,-4.685 -0.603,-4.685 ; -1.81,-4.565 -0.603,-4.565 ; -1.81,-3.105 -0.603,-3.105 ; -1.81,-2.985 -0.603,-2.985 ; -1.81,-2.865 -0.603,-2.865 ; -1.81,-2.745 -0.603,-2.745 ; -1.81,-2.625 -0.603,-2.625 ; -1.81,-2.505 -0.603,-2.505 ; -1.81,-2.385 -0.603,-2.385 ; -1.81,-2.265 -0.603,-2.265 ; -1.81,-2.145 -0.603,-2.145 ; -1.81,-2.025 -0.603,-2.025 ; -1.81,-0.565 -0.603,-0.565 ; -1.81,-0.445 -0.603,-0.445 ; -1.81,-0.325 -0.603,-0.325 ; -1.81,-0.205 -0.603,-0.205 ; -1.81,-0.085 -0.603,-0.085 ; -1.81,0.035 -0.603,0.035 ; -1.81,0.155 -0.603,0.155 ; -1.81,0.275 -0.603,0.275 ; -1.81,0.395 -0.603,0.395 ; -1.81,0.515 -0.603,0.515 ; -1.81,1.975 -0.603,1.975 ; -1.81,2.095 -0.603,2.095 ; -1.81,2.215 -0.603,2.215 ; -1.81,2.335 -0.603,2.335 ; -1.81,2.455 -0.603,2.455 ; -1.81,2.575 -0.603,2.575 ; -1.81,2.695 -0.603,2.695 ; -1.81,2.815 -0.603,2.815 ; -1.81,2.935 -0.603,2.935 ; -1.81,3.055 -0.603,3.055 ; -1.81,4.515 -0.603,4.515 ; -1.81,4.635 -0.603,4.635 ; -1.81,4.755 -0.603,4.755 ; -1.81,4.875 -0.603,4.875 ; -1.81,4.995 -0.603,4.995 ; -1.81,5.115 -0.603,5.115 ; -1.81,5.235 -0.603,5.235 ; -1.81,5.355 -0.603,5.355 ; -1.81,5.475 -0.603,5.475 ; -1.81,5.595 -0.603,5.595 ; -1.81,7.055 -0.603,7.055 ; -1.81,7.175 -0.603,7.175 ; -1.81,7.295 -0.603,7.295 ; -1.81,7.415 -0.603,7.415 ; -1.81,7.535 -0.603,7.535 ; -1.81,7.655 -0.603,7.655 ; -1.81,7.775 -0.603,7.775 ; -1.81,7.895 -0.603,7.895 ; -1.81,8.015 -0.603,8.015 ; -1.81,8.135 -0.603,8.135 ; -0.603,-8.255 -0.603,-6.985 ; -0.603,-5.715 -0.603,-4.445 ; -0.603,-3.175 -0.603,-1.905 ; -0.603,-0.635 -0.603,0.635 ; -0.603,1.905 -0.603,3.175 ; -0.603,4.445 -0.603,5.715 ; -0.603,6.985 -0.603,8.255 ; 3.41,-6.82 3.41,-5.88 ; 3.41,-4.28 3.41,-3.34 ; 3.41,-1.74 3.41,-0.8 ; 3.41,0.8 3.41,1.74 ; 3.41,3.34 3.41,4.28 ; 3.41,5.88 3.41,6.82 ; -1.81,-8.255 1.81,-8.255 1.81,-6.985 -1.81,-6.985 -1.81,-8.255 ; -1.81,-5.715 1.81,-5.715 1.81,-4.445 -1.81,-4.445 -1.81,-5.715 ; -1.81,-3.175 1.81,-3.175 1.81,-1.905 -1.81,-1.905 -1.81,-3.175 ; -1.81,-0.635 -1.81,0.635 1.81,0.635 1.81,-0.635 -1.81,-0.635 ; -1.81,1.905 -1.81,3.175 1.81,3.175 1.81,1.905 -1.81,1.905 ; -1.81,4.445 1.81,4.445 1.81,5.715 -1.81,5.715 -1.81,4.445 ; -1.81,6.985 -1.81,8.255 1.81,8.255 1.81,6.985 -1.81,6.985
F.CrtYd:
  lines w0.05: -4.7,-10 -4.7,10 4.7,10 4.7,-10 -4.7,-10
F.Fab:
  lines w0.1: -1.81,-8.185 -0.603,-8.185 ; -1.81,-8.085 -0.603,-8.085 ; -1.81,-7.985 -0.603,-7.985 ; -1.81,-7.885 -0.603,-7.885 ; -1.81,-7.785 -0.603,-7.785 ; -1.81,-7.685 -0.603,-7.685 ; -1.81,-7.585 -0.603,-7.585 ; -1.81,-7.485 -0.603,-7.485 ; -1.81,-7.385 -0.603,-7.385 ; -1.81,-7.285 -0.603,-7.285 ; -1.81,-7.185 -0.603,-7.185 ; -1.81,-7.085 -0.603,-7.085 ; -1.81,-5.645 -0.603,-5.645 ; -1.81,-5.545 -0.603,-5.545 ; -1.81,-5.445 -0.603,-5.445 ; -1.81,-5.345 -0.603,-5.345 ; -1.81,-5.245 -0.603,-5.245 ; -1.81,-5.145 -0.603,-5.145 ; -1.81,-5.045 -0.603,-5.045 ; -1.81,-4.945 -0.603,-4.945 ; -1.81,-4.845 -0.603,-4.845 ; -1.81,-4.745 -0.603,-4.745 ; -1.81,-4.645 -0.603,-4.645 ; -1.81,-4.545 -0.603,-4.545 ; -1.81,-3.105 -0.603,-3.105 ; -1.81,-3.005 -0.603,-3.005 ; -1.81,-2.905 -0.603,-2.905 ; -1.81,-2.805 -0.603,-2.805 ; -1.81,-2.705 -0.603,-2.705 ; -1.81,-2.605 -0.603,-2.605 ; -1.81,-2.505 -0.603,-2.505 ; -1.81,-2.405 -0.603,-2.405 ; -1.81,-2.305 -0.603,-2.305 ; -1.81,-2.205 -0.603,-2.205 ; -1.81,-2.105 -0.603,-2.105 ; -1.81,-2.005 -0.603,-2.005 ; -1.81,-0.565 -0.603,-0.565 ; -1.81,-0.465 -0.603,-0.465 ; -1.81,-0.365 -0.603,-0.365 ; -1.81,-0.265 -0.603,-0.265 ; -1.81,-0.165 -0.603,-0.165 ; -1.81,-0.065 -0.603,-0.065 ; -1.81,0.035 -0.603,0.035 ; -1.81,0.135 -0.603,0.135 ; -1.81,0.235 -0.603,0.235 ; -1.81,0.335 -0.603,0.335 ; -1.81,0.435 -0.603,0.435 ; -1.81,0.535 -0.603,0.535 ; -1.81,1.975 -0.603,1.975 ; -1.81,2.075 -0.603,2.075 ; -1.81,2.175 -0.603,2.175 ; -1.81,2.275 -0.603,2.275 ; -1.81,2.375 -0.603,2.375 ; -1.81,2.475 -0.603,2.475 ; -1.81,2.575 -0.603,2.575 ; -1.81,2.675 -0.603,2.675 ; -1.81,2.775 -0.603,2.775 ; -1.81,2.875 -0.603,2.875 ; -1.81,2.975 -0.603,2.975 ; -1.81,3.075 -0.603,3.075 ; -1.81,4.515 -0.603,4.515 ; -1.81,4.615 -0.603,4.615 ; -1.81,4.715 -0.603,4.715 ; -1.81,4.815 -0.603,4.815 ; -1.81,4.915 -0.603,4.915 ; -1.81,5.015 -0.603,5.015 ; -1.81,5.115 -0.603,5.115 ; -1.81,5.215 -0.603,5.215 ; -1.81,5.315 -0.603,5.315 ; -1.81,5.415 -0.603,5.415 ; -1.81,5.515 -0.603,5.515 ; -1.81,5.615 -0.603,5.615 ; -1.81,7.055 -0.603,7.055 ; -1.81,7.155 -0.603,7.155 ; -1.81,7.255 -0.603,7.255 ; -1.81,7.355 -0.603,7.355 ; -1.81,7.455 -0.603,7.455 ; -1.81,7.555 -0.603,7.555 ; -1.81,7.655 -0.603,7.655 ; -1.81,7.755 -0.603,7.755 ; -1.81,7.855 -0.603,7.855 ; -1.81,7.955 -0.603,7.955 ; -1.81,8.055 -0.603,8.055 ; -1.81,8.155 -0.603,8.155 ; -0.603,-8.255 -0.603,-6.985 ; -0.603,-5.715 -0.603,-4.445 ; -0.603,-3.175 -0.603,-1.905 ; -0.603,-0.635 -0.603,0.635 ; -0.603,1.905 -0.603,3.175 ; -0.603,4.445 -0.603,5.715 ; -0.603,6.985 -0.603,8.255 ; -3.35,-9.67 -3.35,8.67 -2.35,9.67 3.35,9.67 3.35,-9.67 -3.35,-9.67 ; -1.81,-8.255 -1.81,-6.985 1.81,-6.985 1.81,-8.255 -1.81,-8.255 ; -1.81,-5.715 1.81,-5.715 1.81,-4.445 -1.81,-4.445 -1.81,-5.715 ; -1.81,-3.175 1.81,-3.175 1.81,-1.905 -1.81,-1.905 -1.81,-3.175 ; -1.81,-0.635 -1.81,0.635 1.81,0.635 1.81,-0.635 -1.81,-0.635 ; -1.81,1.905 1.81,1.905 1.81,3.175 -1.81,3.175 -1.81,1.905 ; -1.81,4.445 1.81,4.445 1.81,5.715 -1.81,5.715 -1.81,4.445 ; -1.81,6.985 -1.81,8.255 1.81,8.255 1.81,6.985 -1.81,6.985
  text "'.Designator'" at 3.252,-3.237 h0.8
  text "on" at 0.233,8.576 h0.8

## SW_DIP_SPSTx07_Slide_6.7x19.34mm_W8.61mm_P2.54mm_LowProfile [mm]
pads (14):
  rect 2.44x1.12 smd: 1(-4.305,7.62) 2(-4.305,5.08) 3(-4.305,2.54) 4(-4.305,0) 5(-4.305,-2.54) 6(-4.305,-5.08) 7(-4.305,-7.62) 8(4.305,-7.62) 9(4.305,-5.08) 10(4.305,-2.54) 11(4.305,0) 12(4.305,2.54) 13(4.305,5.08) 14(4.305,7.62)
F.SilkS:
  lines w0.12: -3.65,8.587 -3.65,9.97 -2.267,9.97 ; -3.41,-8.42 -3.41,-9.73 3.41,-9.73 3.41,-8.42 ; -3.41,-6.82 -3.41,-5.88 ; -3.41,-4.28 -3.41,-3.34 ; -3.41,-1.74 -3.41,-0.8 ; -3.41,0.8 -3.41,1.74 ; -3.41,3.34 -3.41,4.28 ; -3.41,5.88 -3.41,6.82 ; -3.41,8.42 -3.41,9.73 3.41,9.73 3.41,8.42 ; -1.81,-8.185 -0.603,-8.185 ; -1.81,-8.065 -0.603,-8.065 ; -1.81,-7.945 -0.603,-7.945 ; -1.81,-7.825 -0.603,-7.825 ; -1.81,-7.705 -0.603,-7.705 ; -1.81,-7.585 -0.603,-7.585 ; -1.81,-7.465 -0.603,-7.465 ; -1.81,-7.345 -0.603,-7.345 ; -1.81,-7.225 -0.603,-7.225 ; -1.81,-7.105 -0.603,-7.105 ; -1.81,-5.645 -0.603,-5.645 ; -1.81,-5.525 -0.603,-5.525 ; -1.81,-5.405 -0.603,-5.405 ; -1.81,-5.285 -0.603,-5.285 ; -1.81,-5.165 -0.603,-5.165 ; -1.81,-5.045 -0.603,-5.045 ; -1.81,-4.925 -0.603,-4.925 ; -1.81,-4.805 -0.603,-4.805 ; -1.81,-4.685 -0.603,-4.685 ; -1.81,-4.565 -0.603,-4.565 ; -1.81,-3.105 -0.603,-3.105 ; -1.81,-2.985 -0.603,-2.985 ; -1.81,-2.865 -0.603,-2.865 ; -1.81,-2.745 -0.603,-2.745 ; -1.81,-2.625 -0.603,-2.625 ; -1.81,-2.505 -0.603,-2.505 ; -1.81,-2.385 -0.603,-2.385 ; -1.81,-2.265 -0.603,-2.265 ; -1.81,-2.145 -0.603,-2.145 ; -1.81,-2.025 -0.603,-2.025 ; -1.81,-0.565 -0.603,-0.565 ; -1.81,-0.445 -0.603,-0.445 ; -1.81,-0.325 -0.603,-0.325 ; -1.81,-0.205 -0.603,-0.205 ; -1.81,-0.085 -0.603,-0.085 ; -1.81,0.035 -0.603,0.035 ; -1.81,0.155 -0.603,0.155 ; -1.81,0.275 -0.603,0.275 ; -1.81,0.395 -0.603,0.395 ; -1.81,0.515 -0.603,0.515 ; -1.81,1.975 -0.603,1.975 ; -1.81,2.095 -0.603,2.095 ; -1.81,2.215 -0.603,2.215 ; -1.81,2.335 -0.603,2.335 ; -1.81,2.455 -0.603,2.455 ; -1.81,2.575 -0.603,2.575 ; -1.81,2.695 -0.603,2.695 ; -1.81,2.815 -0.603,2.815 ; -1.81,2.935 -0.603,2.935 ; -1.81,3.055 -0.603,3.055 ; -1.81,4.515 -0.603,4.515 ; -1.81,4.635 -0.603,4.635 ; -1.81,4.755 -0.603,4.755 ; -1.81,4.875 -0.603,4.875 ; -1.81,4.995 -0.603,4.995 ; -1.81,5.115 -0.603,5.115 ; -1.81,5.235 -0.603,5.235 ; -1.81,5.355 -0.603,5.355 ; -1.81,5.475 -0.603,5.475 ; -1.81,5.595 -0.603,5.595 ; -1.81,7.055 -0.603,7.055 ; -1.81,7.175 -0.603,7.175 ; -1.81,7.295 -0.603,7.295 ; -1.81,7.415 -0.603,7.415 ; -1.81,7.535 -0.603,7.535 ; -1.81,7.655 -0.603,7.655 ; -1.81,7.775 -0.603,7.775 ; -1.81,7.895 -0.603,7.895 ; -1.81,8.015 -0.603,8.015 ; -1.81,8.135 -0.603,8.135 ; -0.603,-8.255 -0.603,-6.985 ; -0.603,-5.715 -0.603,-4.445 ; -0.603,-3.175 -0.603,-1.905 ; -0.603,-0.635 -0.603,0.635 ; -0.603,1.905 -0.603,3.175 ; -0.603,4.445 -0.603,5.715 ; -0.603,6.985 -0.603,8.255 ; 3.41,-6.82 3.41,-5.88 ; 3.41,-4.28 3.41,-3.34 ; 3.41,-1.74 3.41,-0.8 ; 3.41,0.8 3.41,1.74 ; 3.41,3.34 3.41,4.28 ; 3.41,5.88 3.41,6.82 ; -1.81,-8.255 -1.81,-6.985 1.81,-6.985 1.81,-8.255 -1.81,-8.255 ; -1.81,-5.715 -1.81,-4.445 1.81,-4.445 1.81,-5.715 -1.81,-5.715 ; -1.81,-3.175 -1.81,-1.905 1.81,-1.905 1.81,-3.175 -1.81,-3.175 ; -1.81,-0.635 1.81,-0.635 1.81,0.635 -1.81,0.635 -1.81,-0.635 ; -1.81,1.905 1.81,1.905 1.81,3.175 -1.81,3.175 -1.81,1.905 ; -1.81,4.445 -1.81,5.715 1.81,5.715 1.81,4.445 -1.81,4.445 ; -1.81,6.985 1.81,6.985 1.81,8.255 -1.81,8.255 -1.81,6.985
F.CrtYd:
  lines w0.05: -5.8,-10 5.8,-10 5.8,10 -5.8,10 -5.8,-10
F.Fab:
  lines w0.1: -1.81,-8.185 -0.603,-8.185 ; -1.81,-8.085 -0.603,-8.085 ; -1.81,-7.985 -0.603,-7.985 ; -1.81,-7.885 -0.603,-7.885 ; -1.81,-7.785 -0.603,-7.785 ; -1.81,-7.685 -0.603,-7.685 ; -1.81,-7.585 -0.603,-7.585 ; -1.81,-7.485 -0.603,-7.485 ; -1.81,-7.385 -0.603,-7.385 ; -1.81,-7.285 -0.603,-7.285 ; -1.81,-7.185 -0.603,-7.185 ; -1.81,-7.085 -0.603,-7.085 ; -1.81,-5.645 -0.603,-5.645 ; -1.81,-5.545 -0.603,-5.545 ; -1.81,-5.445 -0.603,-5.445 ; -1.81,-5.345 -0.603,-5.345 ; -1.81,-5.245 -0.603,-5.245 ; -1.81,-5.145 -0.603,-5.145 ; -1.81,-5.045 -0.603,-5.045 ; -1.81,-4.945 -0.603,-4.945 ; -1.81,-4.845 -0.603,-4.845 ; -1.81,-4.745 -0.603,-4.745 ; -1.81,-4.645 -0.603,-4.645 ; -1.81,-4.545 -0.603,-4.545 ; -1.81,-3.105 -0.603,-3.105 ; -1.81,-3.005 -0.603,-3.005 ; -1.81,-2.905 -0.603,-2.905 ; -1.81,-2.805 -0.603,-2.805 ; -1.81,-2.705 -0.603,-2.705 ; -1.81,-2.605 -0.603,-2.605 ; -1.81,-2.505 -0.603,-2.505 ; -1.81,-2.405 -0.603,-2.405 ; -1.81,-2.305 -0.603,-2.305 ; -1.81,-2.205 -0.603,-2.205 ; -1.81,-2.105 -0.603,-2.105 ; -1.81,-2.005 -0.603,-2.005 ; -1.81,-0.565 -0.603,-0.565 ; -1.81,-0.465 -0.603,-0.465 ; -1.81,-0.365 -0.603,-0.365 ; -1.81,-0.265 -0.603,-0.265 ; -1.81,-0.165 -0.603,-0.165 ; -1.81,-0.065 -0.603,-0.065 ; -1.81,0.035 -0.603,0.035 ; -1.81,0.135 -0.603,0.135 ; -1.81,0.235 -0.603,0.235 ; -1.81,0.335 -0.603,0.335 ; -1.81,0.435 -0.603,0.435 ; -1.81,0.535 -0.603,0.535 ; -1.81,1.975 -0.603,1.975 ; -1.81,2.075 -0.603,2.075 ; -1.81,2.175 -0.603,2.175 ; -1.81,2.275 -0.603,2.275 ; -1.81,2.375 -0.603,2.375 ; -1.81,2.475 -0.603,2.475 ; -1.81,2.575 -0.603,2.575 ; -1.81,2.675 -0.603,2.675 ; -1.81,2.775 -0.603,2.775 ; -1.81,2.875 -0.603,2.875 ; -1.81,2.975 -0.603,2.975 ; -1.81,3.075 -0.603,3.075 ; -1.81,4.515 -0.603,4.515 ; -1.81,4.615 -0.603,4.615 ; -1.81,4.715 -0.603,4.715 ; -1.81,4.815 -0.603,4.815 ; -1.81,4.915 -0.603,4.915 ; -1.81,5.015 -0.603,5.015 ; -1.81,5.115 -0.603,5.115 ; -1.81,5.215 -0.603,5.215 ; -1.81,5.315 -0.603,5.315 ; -1.81,5.415 -0.603,5.415 ; -1.81,5.515 -0.603,5.515 ; -1.81,5.615 -0.603,5.615 ; -1.81,7.055 -0.603,7.055 ; -1.81,7.155 -0.603,7.155 ; -1.81,7.255 -0.603,7.255 ; -1.81,7.355 -0.603,7.355 ; -1.81,7.455 -0.603,7.455 ; -1.81,7.555 -0.603,7.555 ; -1.81,7.655 -0.603,7.655 ; -1.81,7.755 -0.603,7.755 ; -1.81,7.855 -0.603,7.855 ; -1.81,7.955 -0.603,7.955 ; -1.81,8.055 -0.603,8.055 ; -1.81,8.155 -0.603,8.155 ; -0.603,-8.255 -0.603,-6.985 ; -0.603,-5.715 -0.603,-4.445 ; -0.603,-3.175 -0.603,-1.905 ; -0.603,-0.635 -0.603,0.635 ; -0.603,1.905 -0.603,3.175 ; -0.603,4.445 -0.603,5.715 ; -0.603,6.985 -0.603,8.255 ; -3.35,-9.67 -3.35,8.67 -2.35,9.67 3.35,9.67 3.35,-9.67 -3.35,-9.67 ; -1.81,-8.255 1.81,-8.255 1.81,-6.985 -1.81,-6.985 -1.81,-8.255 ; -1.81,-5.715 1.81,-5.715 1.81,-4.445 -1.81,-4.445 -1.81,-5.715 ; -1.81,-3.175 1.81,-3.175 1.81,-1.905 -1.81,-1.905 -1.81,-3.175 ; -1.81,-0.635 -1.81,0.635 1.81,0.635 1.81,-0.635 -1.81,-0.635 ; -1.81,1.905 -1.81,3.175 1.81,3.175 1.81,1.905 -1.81,1.905 ; -1.81,4.445 1.81,4.445 1.81,5.715 -1.81,5.715 -1.81,4.445 ; -1.81,6.985 1.81,6.985 1.81,8.255 -1.81,8.255 -1.81,6.985
  text "on" at -0.237,8.576 h0.8
  text "'.Designator'" at 3.252,-3.237 h0.8

## SW_DIP_SPSTx07_Slide_9.78x19.96mm_W8.61mm_P2.54mm [mm]
pads (14):
  rect 2.44x1.12 smd: 1(-4.305,7.62) 2(-4.305,5.08) 3(-4.305,2.54) 4(-4.305,0) 5(-4.305,-2.54) 6(-4.305,-5.08) 7(-4.305,-7.62) 8(4.305,-7.62) 9(4.305,-5.08) 10(4.305,-2.54) 11(4.305,0) 12(4.305,2.54) 13(4.305,5.08) 14(4.305,7.62)
F.SilkS:
  lines w0.12: -5.19,8.897 -5.19,10.28 -3.806,10.28 ; -4.95,-8.42 -4.95,-10.041 4.95,-10.041 4.95,-8.42 ; -4.95,-6.82 -4.95,-5.88 ; -4.95,-4.28 -4.95,-3.34 ; -4.95,-1.74 -4.95,-0.8 ; -4.95,0.8 -4.95,1.74 ; -4.95,3.34 -4.95,4.28 ; -4.95,5.88 -4.95,6.82 ; -4.95,8.42 -4.95,10.04 4.95,10.04 4.95,8.42 ; -2.03,-8.185 -0.677,-8.185 ; -2.03,-8.065 -0.677,-8.065 ; -2.03,-7.945 -0.677,-7.945 ; -2.03,-7.825 -0.677,-7.825 ; -2.03,-7.705 -0.677,-7.705 ; -2.03,-7.585 -0.677,-7.585 ; -2.03,-7.465 -0.677,-7.465 ; -2.03,-7.345 -0.677,-7.345 ; -2.03,-7.225 -0.677,-7.225 ; -2.03,-7.105 -0.677,-7.105 ; -2.03,-5.645 -0.677,-5.645 ; -2.03,-5.525 -0.677,-5.525 ; -2.03,-5.405 -0.677,-5.405 ; -2.03,-5.285 -0.677,-5.285 ; -2.03,-5.165 -0.677,-5.165 ; -2.03,-5.045 -0.677,-5.045 ; -2.03,-4.925 -0.677,-4.925 ; -2.03,-4.805 -0.677,-4.805 ; -2.03,-4.685 -0.677,-4.685 ; -2.03,-4.565 -0.677,-4.565 ; -2.03,-3.105 -0.677,-3.105 ; -2.03,-2.985 -0.677,-2.985 ; -2.03,-2.865 -0.677,-2.865 ; -2.03,-2.745 -0.677,-2.745 ; -2.03,-2.625 -0.677,-2.625 ; -2.03,-2.505 -0.677,-2.505 ; -2.03,-2.385 -0.677,-2.385 ; -2.03,-2.265 -0.677,-2.265 ; -2.03,-2.145 -0.677,-2.145 ; -2.03,-2.025 -0.677,-2.025 ; -2.03,-0.565 -0.677,-0.565 ; -2.03,-0.445 -0.677,-0.445 ; -2.03,-0.325 -0.677,-0.325 ; -2.03,-0.205 -0.677,-0.205 ; -2.03,-0.085 -0.677,-0.085 ; -2.03,0.035 -0.677,0.035 ; -2.03,0.155 -0.677,0.155 ; -2.03,0.275 -0.677,0.275 ; -2.03,0.395 -0.677,0.395 ; -2.03,0.515 -0.677,0.515 ; -2.03,1.975 -0.677,1.975 ; -2.03,2.095 -0.677,2.095 ; -2.03,2.215 -0.677,2.215 ; -2.03,2.335 -0.677,2.335 ; -2.03,2.455 -0.677,2.455 ; -2.03,2.575 -0.677,2.575 ; -2.03,2.695 -0.677,2.695 ; -2.03,2.815 -0.677,2.815 ; -2.03,2.935 -0.677,2.935 ; -2.03,3.055 -0.677,3.055 ; -2.03,4.515 -0.677,4.515 ; -2.03,4.635 -0.677,4.635 ; -2.03,4.755 -0.677,4.755 ; -2.03,4.875 -0.677,4.875 ; -2.03,4.995 -0.677,4.995 ; -2.03,5.115 -0.677,5.115 ; -2.03,5.235 -0.677,5.235 ; -2.03,5.355 -0.677,5.355 ; -2.03,5.475 -0.677,5.475 ; -2.03,5.595 -0.677,5.595 ; -2.03,7.055 -0.677,7.055 ; -2.03,7.175 -0.677,7.175 ; -2.03,7.295 -0.677,7.295 ; -2.03,7.415 -0.677,7.415 ; -2.03,7.535 -0.677,7.535 ; -2.03,7.655 -0.677,7.655 ; -2.03,7.775 -0.677,7.775 ; -2.03,7.895 -0.677,7.895 ; -2.03,8.015 -0.677,8.015 ; -2.03,8.135 -0.677,8.135 ; -0.677,-8.255 -0.677,-6.985 ; -0.677,-5.715 -0.677,-4.445 ; -0.677,-3.175 -0.677,-1.905 ; -0.677,-0.635 -0.677,0.635 ; -0.677,1.905 -0.677,3.175 ; -0.677,4.445 -0.677,5.715 ; -0.677,6.985 -0.677,8.255 ; 4.95,-6.82 4.95,-5.88 ; 4.95,-4.28 4.95,-3.34 ; 4.95,-1.74 4.95,-0.8 ; 4.95,0.8 4.95,1.74 ; 4.95,3.34 4.95,4.28 ; 4.95,5.88 4.95,6.82 ; -2.03,-8.255 -2.03,-6.985 2.03,-6.985 2.03,-8.255 -2.03,-8.255 ; -2.03,-5.715 2.03,-5.715 2.03,-4.445 -2.03,-4.445 -2.03,-5.715 ; -2.03,-3.175 2.03,-3.175 2.03,-1.905 -2.03,-1.905 -2.03,-3.175 ; -2.03,-0.635 -2.03,0.635 2.03,0.635 2.03,-0.635 -2.03,-0.635 ; -2.03,1.905 -2.03,3.175 2.03,3.175 2.03,1.905 -2.03,1.905 ; -2.03,4.445 -2.03,5.715 2.03,5.715 2.03,4.445 -2.03,4.445 ; -2.03,6.985 -2.03,8.255 2.03,8.255 2.03,6.985 -2.03,6.985
F.CrtYd:
  lines w0.05: -5.8,-10.3 -5.8,10.3 5.8,10.3 5.8,-10.3 -5.8,-10.3
F.Fab:
  lines w0.1: -2.03,-8.185 -0.677,-8.185 ; -2.03,-8.085 -0.677,-8.085 ; -2.03,-7.985 -0.677,-7.985 ; -2.03,-7.885 -0.677,-7.885 ; -2.03,-7.785 -0.677,-7.785 ; -2.03,-7.685 -0.677,-7.685 ; -2.03,-7.585 -0.677,-7.585 ; -2.03,-7.485 -0.677,-7.485 ; -2.03,-7.385 -0.677,-7.385 ; -2.03,-7.285 -0.677,-7.285 ; -2.03,-7.185 -0.677,-7.185 ; -2.03,-7.085 -0.677,-7.085 ; -2.03,-5.645 -0.677,-5.645 ; -2.03,-5.545 -0.677,-5.545 ; -2.03,-5.445 -0.677,-5.445 ; -2.03,-5.345 -0.677,-5.345 ; -2.03,-5.245 -0.677,-5.245 ; -2.03,-5.145 -0.677,-5.145 ; -2.03,-5.045 -0.677,-5.045 ; -2.03,-4.945 -0.677,-4.945 ; -2.03,-4.845 -0.677,-4.845 ; -2.03,-4.745 -0.677,-4.745 ; -2.03,-4.645 -0.677,-4.645 ; -2.03,-4.545 -0.677,-4.545 ; -2.03,-3.105 -0.677,-3.105 ; -2.03,-3.005 -0.677,-3.005 ; -2.03,-2.905 -0.677,-2.905 ; -2.03,-2.805 -0.677,-2.805 ; -2.03,-2.705 -0.677,-2.705 ; -2.03,-2.605 -0.677,-2.605 ; -2.03,-2.505 -0.677,-2.505 ; -2.03,-2.405 -0.677,-2.405 ; -2.03,-2.305 -0.677,-2.305 ; -2.03,-2.205 -0.677,-2.205 ; -2.03,-2.105 -0.677,-2.105 ; -2.03,-2.005 -0.677,-2.005 ; -2.03,-0.565 -0.677,-0.565 ; -2.03,-0.465 -0.677,-0.465 ; -2.03,-0.365 -0.677,-0.365 ; -2.03,-0.265 -0.677,-0.265 ; -2.03,-0.165 -0.677,-0.165 ; -2.03,-0.065 -0.677,-0.065 ; -2.03,0.035 -0.677,0.035 ; -2.03,0.135 -0.677,0.135 ; -2.03,0.235 -0.677,0.235 ; -2.03,0.335 -0.677,0.335 ; -2.03,0.435 -0.677,0.435 ; -2.03,0.535 -0.677,0.535 ; -2.03,1.975 -0.677,1.975 ; -2.03,2.075 -0.677,2.075 ; -2.03,2.175 -0.677,2.175 ; -2.03,2.275 -0.677,2.275 ; -2.03,2.375 -0.677,2.375 ; -2.03,2.475 -0.677,2.475 ; -2.03,2.575 -0.677,2.575 ; -2.03,2.675 -0.677,2.675 ; -2.03,2.775 -0.677,2.775 ; -2.03,2.875 -0.677,2.875 ; -2.03,2.975 -0.677,2.975 ; -2.03,3.075 -0.677,3.075 ; -2.03,4.515 -0.677,4.515 ; -2.03,4.615 -0.677,4.615 ; -2.03,4.715 -0.677,4.715 ; -2.03,4.815 -0.677,4.815 ; -2.03,4.915 -0.677,4.915 ; -2.03,5.015 -0.677,5.015 ; -2.03,5.115 -0.677,5.115 ; -2.03,5.215 -0.677,5.215 ; -2.03,5.315 -0.677,5.315 ; -2.03,5.415 -0.677,5.415 ; -2.03,5.515 -0.677,5.515 ; -2.03,5.615 -0.677,5.615 ; -2.03,7.055 -0.677,7.055 ; -2.03,7.155 -0.677,7.155 ; -2.03,7.255 -0.677,7.255 ; -2.03,7.355 -0.677,7.355 ; -2.03,7.455 -0.677,7.455 ; -2.03,7.555 -0.677,7.555 ; -2.03,7.655 -0.677,7.655 ; -2.03,7.755 -0.677,7.755 ; -2.03,7.855 -0.677,7.855 ; -2.03,7.955 -0.677,7.955 ; -2.03,8.055 -0.677,8.055 ; -2.03,8.155 -0.677,8.155 ; -0.677,-8.255 -0.677,-6.985 ; -0.677,-5.715 -0.677,-4.445 ; -0.677,-3.175 -0.677,-1.905 ; -0.677,-0.635 -0.677,0.635 ; -0.677,1.905 -0.677,3.175 ; -0.677,4.445 -0.677,5.715 ; -0.677,6.985 -0.677,8.255 ; -4.89,-9.98 -4.89,8.98 -3.89,9.98 4.89,9.98 4.89,-9.98 -4.89,-9.98 ; -2.03,-8.255 -2.03,-6.985 2.03,-6.985 2.03,-8.255 -2.03,-8.255 ; -2.03,-5.715 -2.03,-4.445 2.03,-4.445 2.03,-5.715 -2.03,-5.715 ; -2.03,-3.175 -2.03,-1.905 2.03,-1.905 2.03,-3.175 -2.03,-3.175 ; -2.03,-0.635 -2.03,0.635 2.03,0.635 2.03,-0.635 -2.03,-0.635 ; -2.03,1.905 -2.03,3.175 2.03,3.175 2.03,1.905 -2.03,1.905 ; -2.03,4.445 -2.03,5.715 2.03,5.715 2.03,4.445 -2.03,4.445 ; -2.03,6.985 -2.03,8.255 2.03,8.255 2.03,6.985 -2.03,6.985
  text "on" at 0.643,8.731 h0.8
  text "'.Designator'" at 4.132,-3.237 h0.8

## SW_DIP_SPSTx07_Slide_KingTek_DSHP07TJ_W5.25mm_P1.27mm_JPin [mm]
pads (14):
  rect 2.65x0.76 smd: 1(-2.625,3.81) 2(-2.625,2.54) 3(-2.625,1.27) 4(-2.625,0) 5(-2.625,-1.27) 6(-2.625,-2.54) 7(-2.625,-3.81) 8(2.625,-3.81) 9(2.625,-2.54) 10(2.625,-1.27) 11(2.625,0) 12(2.625,1.27) 13(2.625,2.54) 14(2.625,3.81)
F.SilkS:
  lines w0.12: -3.951,4.49 -2.761,4.49 -2.761,5.405 2.76,5.405 2.76,4.43 ; -2.761,-4.43 -2.761,-5.405 2.76,-5.405 2.76,-4.43
F.CrtYd:
  lines w0.05: -4.2,-5.7 4.2,-5.7 4.2,5.7 -4.2,5.7 -4.2,-5.7
F.Fab:
  lines w0.1: -1,-4.11 -0.333,-4.11 ; -1,-4.01 -0.333,-4.01 ; -1,-3.91 -0.333,-3.91 ; -1,-3.81 -0.333,-3.81 ; -1,-3.71 -0.333,-3.71 ; -1,-3.61 -0.333,-3.61 ; -1,-3.51 -0.333,-3.51 ; -1,-2.84 -0.333,-2.84 ; -1,-2.74 -0.333,-2.74 ; -1,-2.64 -0.333,-2.64 ; -1,-2.54 -0.333,-2.54 ; -1,-2.44 -0.333,-2.44 ; -1,-2.34 -0.333,-2.34 ; -1,-2.24 -0.333,-2.24 ; -1,-1.57 -0.333,-1.57 ; -1,-1.47 -0.333,-1.47 ; -1,-1.37 -0.333,-1.37 ; -1,-1.27 -0.333,-1.27 ; -1,-1.17 -0.333,-1.17 ; -1,-1.07 -0.333,-1.07 ; -1,-0.97 -0.333,-0.97 ; -1,-0.3 -0.333,-0.3 ; -1,-0.2 -0.333,-0.2 ; -1,-0.1 -0.333,-0.1 ; -1,0 -0.333,0 ; -1,0.1 -0.333,0.1 ; -1,0.2 -0.333,0.2 ; -1,0.3 -0.333,0.3 ; -1,0.97 -0.333,0.97 ; -1,1.07 -0.333,1.07 ; -1,1.17 -0.333,1.17 ; -1,1.27 -0.333,1.27 ; -1,1.37 -0.333,1.37 ; -1,1.47 -0.333,1.47 ; -1,1.57 -0.333,1.57 ; -1,2.24 -0.333,2.24 ; -1,2.34 -0.333,2.34 ; -1,2.44 -0.333,2.44 ; -1,2.54 -0.333,2.54 ; -1,2.64 -0.333,2.64 ; -1,2.74 -0.333,2.74 ; -1,2.84 -0.333,2.84 ; -1,3.51 -0.333,3.51 ; -1,3.61 -0.333,3.61 ; -1,3.71 -0.333,3.71 ; -1,3.81 -0.333,3.81 ; -1,3.91 -0.333,3.91 ; -1,4.01 -0.333,4.01 ; -1,4.11 -0.333,4.11 ; -0.333,-3.41 -0.333,-4.21 -1,-4.21 ; -0.333,-2.14 -0.333,-2.94 -1,-2.94 ; -0.333,-0.87 -0.333,-1.67 -1,-1.67 ; -0.333,-0.4 -0.333,0.4 ; -0.333,0.87 -0.333,1.67 ; -0.333,2.14 -0.333,2.94 ; -0.333,3.41 -0.333,4.21 ; -1,-4.21 -1,-3.41 1,-3.41 1,-4.21 -1,-4.21 ; -1,-2.94 1,-2.94 1,-2.14 -1,-2.14 -1,-2.94 ; -1,-1.67 1,-1.67 1,-0.87 -1,-0.87 -1,-1.67 ; -2.7,-5.345 2.7,-5.345 2.7,5.345 -1.7,5.345 -2.7,4.345 -2.7,-5.345 ; -1,-0.4 1,-0.4 1,0.4 -1,0.4 -1,-0.4 ; -1,0.87 -1,1.67 1,1.67 1,0.87 -1,0.87 ; -1,2.14 -1,2.94 1,2.94 1,2.14 -1,2.14 ; -1,3.41 1,3.41 1,4.21 -1,4.21 -1,3.41
  text "'.Designator'" at 2.522,-3.237 h0.8
  text "on" at -0.127,4.391 h0.8

## SW_DIP_SPSTx07_Slide_KingTek_DSHP07TS_W7.62mm_P1.27mm [mm]
pads (14):
  rect 1.27x0.76 smd: 1(-3.81,3.81) 2(-3.81,2.54) 3(-3.81,1.27) 4(-3.81,0) 5(-3.81,-1.27) 6(-3.81,-2.54) 7(-3.81,-3.81) 8(3.81,-3.81) 9(3.81,-2.54) 10(3.81,-1.27) 11(3.81,0) 12(3.81,1.27) 13(3.81,2.54) 14(3.81,3.81)
F.SilkS:
  lines w0.12: -4.446,4.49 -2.76,4.49 -2.76,5.306 2.76,5.306 2.76,3.871 ; -2.76,-3.87 -2.76,-5.305 2.76,-5.305 2.76,-3.87
F.CrtYd:
  lines w0.05: -4.7,-5.6 -4.7,5.6 4.7,5.6 4.7,-5.6 -4.7,-5.6
F.Fab:
  lines w0.1: -1,-4.11 -0.333,-4.11 ; -1,-4.01 -0.333,-4.01 ; -1,-3.91 -0.333,-3.91 ; -1,-3.81 -0.333,-3.81 ; -1,-3.71 -0.333,-3.71 ; -1,-3.61 -0.333,-3.61 ; -1,-3.51 -0.333,-3.51 ; -1,-2.84 -0.333,-2.84 ; -1,-2.74 -0.333,-2.74 ; -1,-2.64 -0.333,-2.64 ; -1,-2.54 -0.333,-2.54 ; -1,-2.44 -0.333,-2.44 ; -1,-2.34 -0.333,-2.34 ; -1,-2.24 -0.333,-2.24 ; -1,-1.57 -0.333,-1.57 ; -1,-1.47 -0.333,-1.47 ; -1,-1.37 -0.333,-1.37 ; -1,-1.27 -0.333,-1.27 ; -1,-1.17 -0.333,-1.17 ; -1,-1.07 -0.333,-1.07 ; -1,-0.97 -0.333,-0.97 ; -1,-0.3 -0.333,-0.3 ; -1,-0.2 -0.333,-0.2 ; -1,-0.1 -0.333,-0.1 ; -1,0 -0.333,0 ; -1,0.1 -0.333,0.1 ; -1,0.2 -0.333,0.2 ; -1,0.3 -0.333,0.3 ; -1,0.97 -0.333,0.97 ; -1,1.07 -0.333,1.07 ; -1,1.17 -0.333,1.17 ; -1,1.27 -0.333,1.27 ; -1,1.37 -0.333,1.37 ; -1,1.47 -0.333,1.47 ; -1,1.57 -0.333,1.57 ; -1,2.24 -0.333,2.24 ; -1,2.34 -0.333,2.34 ; -1,2.44 -0.333,2.44 ; -1,2.54 -0.333,2.54 ; -1,2.64 -0.333,2.64 ; -1,2.74 -0.333,2.74 ; -1,2.84 -0.333,2.84 ; -1,3.51 -0.333,3.51 ; -1,3.61 -0.333,3.61 ; -1,3.71 -0.333,3.71 ; -1,3.81 -0.333,3.81 ; -1,3.91 -0.333,3.91 ; -1,4.01 -0.333,4.01 ; -1,4.11 -0.333,4.11 ; -0.333,-3.41 -0.333,-4.21 -1,-4.21 ; -0.333,-2.14 -0.333,-2.94 -1,-2.94 ; -0.333,-0.87 -0.333,-1.67 -1,-1.67 ; -0.333,-0.4 -0.333,0.4 ; -0.333,0.87 -0.333,1.67 ; -0.333,2.14 -0.333,2.94 ; -0.333,3.41 -0.333,4.21 ; -1,-4.21 1,-4.21 1,-3.41 -1,-3.41 -1,-4.21 ; -1,-2.94 -1,-2.14 1,-2.14 1,-2.94 -1,-2.94 ; -1,-1.67 -1,-0.87 1,-0.87 1,-1.67 -1,-1.67 ; -2.7,-5.245 -2.7,4.245 -1.7,5.245 2.7,5.245 2.7,-5.245 -2.7,-5.245 ; -1,-0.4 -1,0.4 1,0.4 1,-0.4 -1,-0.4 ; -1,0.87 -1,1.67 1,1.67 1,0.87 -1,0.87 ; -1,2.14 -1,2.94 1,2.94 1,2.14 -1,2.14 ; -1,3.41 -1,4.21 1,4.21 1,3.41 -1,3.41
  text "'.Designator'" at 2.522,-3.237 h0.8
  text "on" at -0.72,4.341 h0.8